# Altium footprint library ABS06-32.768KHZ-9-1-T.PcbLib: 1 footprints
Each footprint in its own frame and in the unit in brackets; x right, y up, seen from the top. Pads: shape width x height; smd on the part's side, far side on the other; paste and mask are expansions set on the pad; w line width, h text height; cw(c..) or ccw(c..) is an arc to the next point about the centre after c.
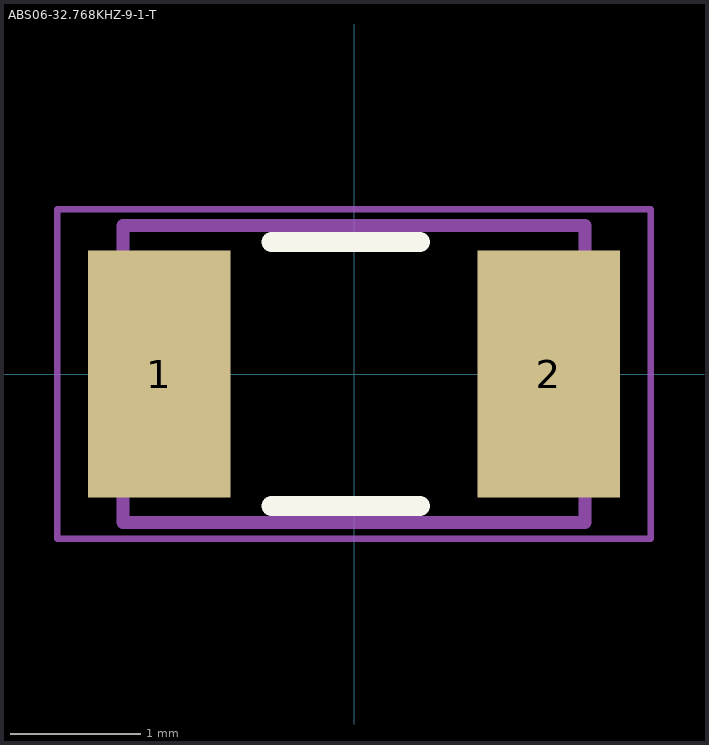
[diagram p0: the footprint, top view; thin cyan lines are the x and y axes]

## ABS06-32.768KHZ-9-1-T [mm]
pads (2):
  rect 1.1x1.9 smd paste+0: 1(-1.5,0) 2(1.5,0)
Top Overlay:
  lines w0.152: -0.635,-1.016 0.508,-1.016 ; -0.635,1.016 0.508,1.016
Mechanical 1:
  lines w0.1: -1.778,-1.143 1.778,-1.143 1.778,1.143 -1.778,1.143 -1.778,-1.143
  text ".Designator" at -1.399,-0.166 h0.65
Mechanical 2:
  lines w0.05: -2.286,-1.27 -2.286,1.27 2.286,1.27 2.286,-1.27 -2.286,-1.27
3D body "XTAL_ABS07-166-32_768KHZ-T_ABR.step": height 0.89, standoff 0, extent -1.815,-1.092 1.815,1.092